# Altium integrated library NSC Switcher.IntLib: 2027 symbols (part 26 of 54)
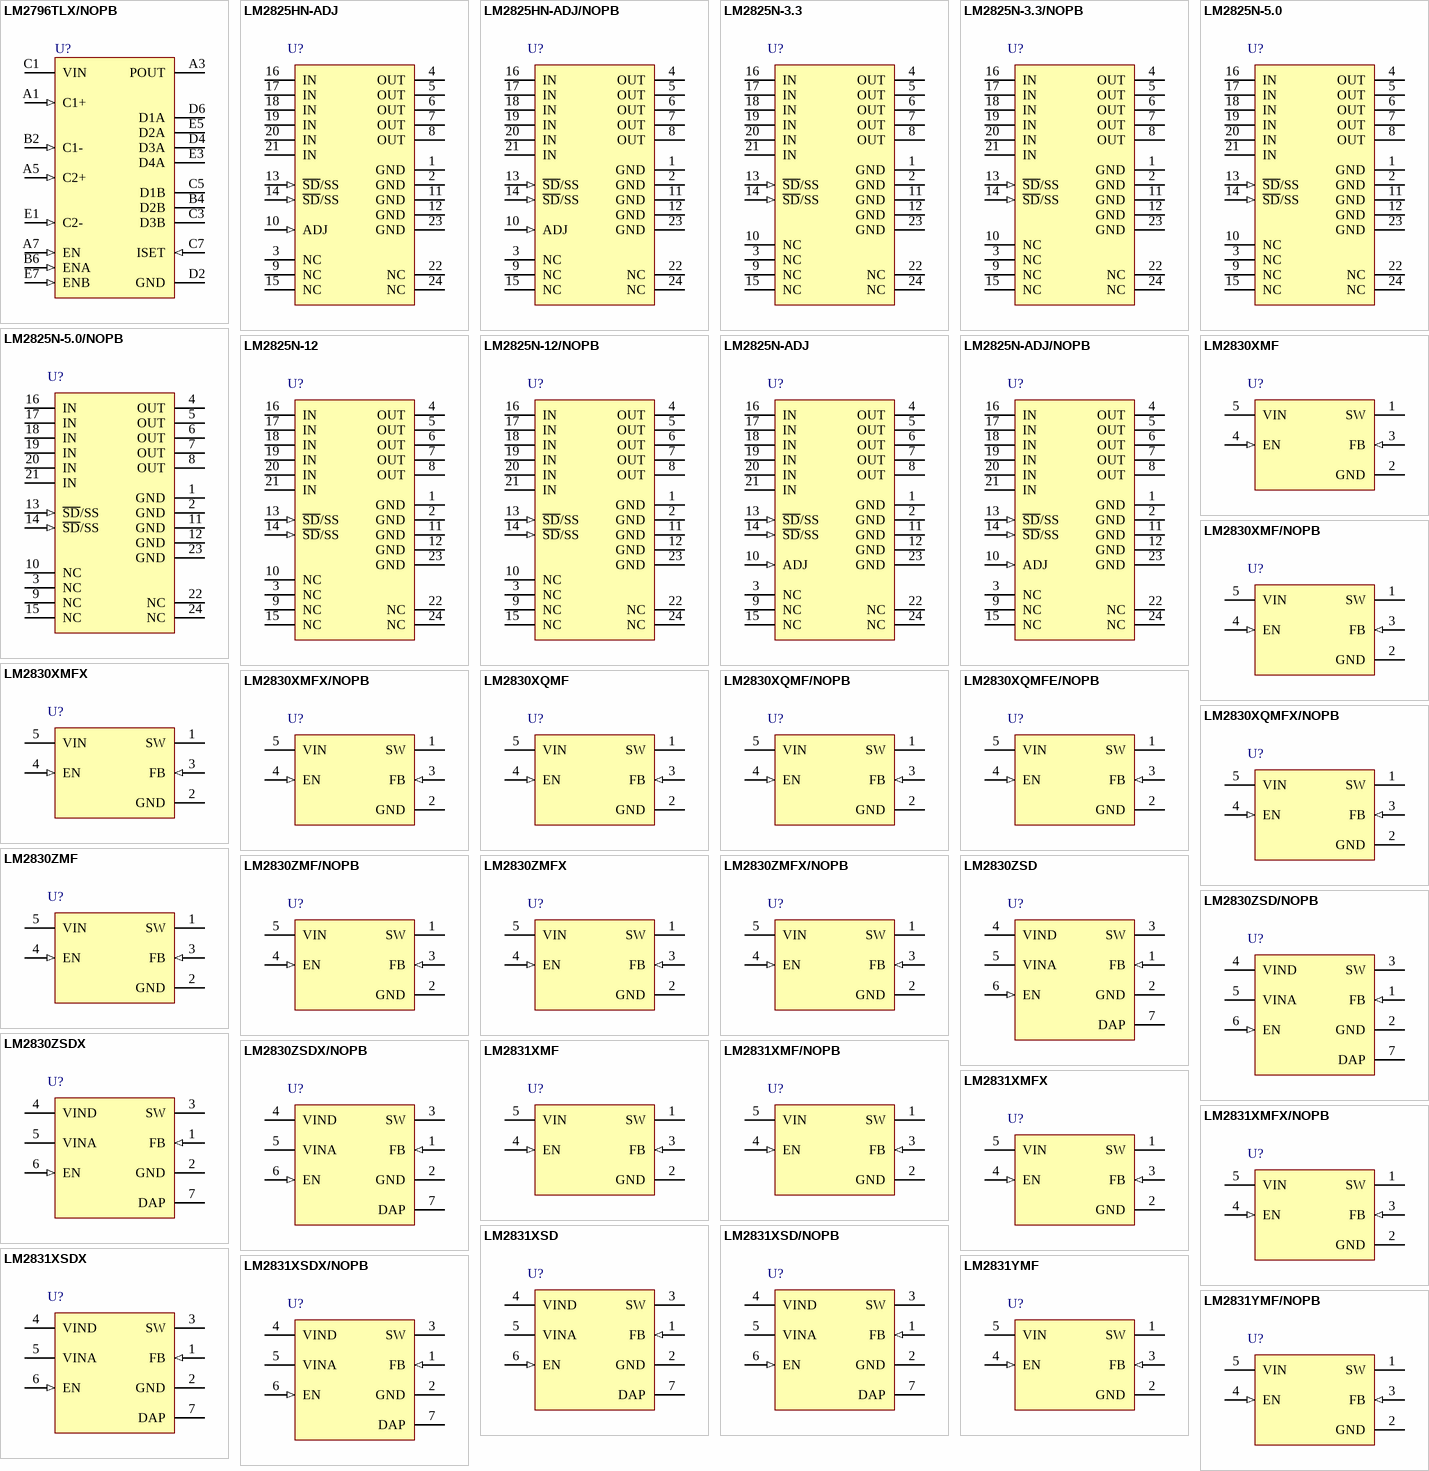
[diagram p88: symbols LM2796TLX/NOPB to LM2831YMF/NOPB]

## LM2830XQMFX/NOPB
designator U?
High Frequency 1.0A Load - Step-Down DC-DC Regulator, 5-pin SOT-23, Pb-Free; PartNumber: LM2830XQMFX/NOPB; Manufacturer: National Semiconductor; PackageTopMarking: SUFB*XTT; PowerWise: N; CompType: Switcher; Published: 1-Mar-2010; DatasheetVersion: May-2008; PackageVersion: revD, Aug-2008; PackageReference: MF05A; Publisher: Altium Limited; PackageDescription: Molded SOT-23, .115 x .063 x .040 in Body, 5 Lead, .0375 in Pitch; Supplier 1: Digi-Key; Supplier Part Number 1: LM2830XQMFX-ND; RoHS: Y; PinCount: 5; ComponentLink1Description: LM2830 Datasheet; ComponentLink1URL: http://www.national.com/ds/LM/LM2830.pdf; ComponentLink2Description: LM2830 Web Page; ComponentLink2URL: http://www.national.com/pf/LM/LM2830.html; ComponentLink3Description: MF05A Package Page; ComponentLink3URL: http://www.national.com/packaging/folders/mf05a.html
footprint MF05A_N (SOT23, 5-Leads, Body 2.9x1.6mm, Pitch 0.95mm, Lead Span 2.8mm, IPC Medium Density)
footprint MF05A_L (SOT23, 5-Leads, Body 2.9x1.6mm, Pitch 0.95mm, Lead Span 2.8mm, IPC High Density)
footprint MF05A_M (SOT23, 5-Leads, Body 2.9x1.6mm, Pitch 0.95mm, Lead Span 2.8mm, IPC Low Density)
pins: 1 SW (power), 2 GND (power), 3 FB (in), 4 EN (in), 5 VIN (power)

## LM2830ZMF
designator U?
High Frequency 1.0A Load - Step-Down DC-DC Regulator, 5-pin SOT-23; PartNumber: LM2830ZMF; Manufacturer: National Semiconductor; PackageTopMarking: SKXB*XTT; PowerWise: N; CompType: Switcher; Published: 4-Dec-2008; DatasheetVersion: May-2008; PackageVersion: revD, Aug-2008; PackageReference: MF05A; Publisher: Altium Limited; PackageDescription: Molded SOT-23, .115 x .063 x .040 in Body, 5 Lead, .0375 in Pitch; Supplier 1: Farnell; Supplier Part Number 1: 1271411; RoHS: N; PinCount: 5; ComponentLink1Description: LM2830 Datasheet; ComponentLink1URL: http://www.national.com/ds/LM/LM2830.pdf; ComponentLink2Description: LM2830 Web Page; ComponentLink2URL: http://www.national.com/pf/LM/LM2830.html; ComponentLink3Description: MF05A Package Page; ComponentLink3URL: http://www.national.com/packaging/folders/mf05a.html
footprint MF05A_N (SOT23, 5-Leads, Body 2.9x1.6mm, Pitch 0.95mm, Lead Span 2.8mm, IPC Medium Density)
footprint MF05A_L (SOT23, 5-Leads, Body 2.9x1.6mm, Pitch 0.95mm, Lead Span 2.8mm, IPC High Density)
footprint MF05A_M (SOT23, 5-Leads, Body 2.9x1.6mm, Pitch 0.95mm, Lead Span 2.8mm, IPC Low Density)
pins: 1 SW (power), 2 GND (power), 3 FB (in), 4 EN (in), 5 VIN (power)

## LM2830ZMF/NOPB
designator U?
High Frequency 1.0A Load - Step-Down DC-DC Regulator, 5-pin SOT-23, Pb-Free; PartNumber: LM2830ZMF/NOPB; Manufacturer: National Semiconductor; PackageTopMarking: SKXB*XTT; PowerWise: N; CompType: Switcher; Published: 1-Mar-2010; DatasheetVersion: May-2008; PackageVersion: revD, Aug-2008; PackageReference: MF05A; Publisher: Altium Limited; PackageDescription: Molded SOT-23, .115 x .063 x .040 in Body, 5 Lead, .0375 in Pitch; Supplier 1: Digi-Key; Supplier Part Number 1: LM2830ZMFTR-ND; Supplier 2: Digi-Key; Supplier Part Number 2: LM2830ZMFCT-ND; Supplier 3: Digi-Key; Supplier Part Number 3: LM2830ZMFDKR-ND; RoHS: Y; PinCount: 5; ComponentLink1Description: LM2830 Datasheet; ComponentLink1URL: http://www.national.com/ds/LM/LM2830.pdf; ComponentLink2Description: LM2830 Web Page; ComponentLink2URL: http://www.national.com/pf/LM/LM2830.html; ComponentLink3Description: MF05A Package Page; ComponentLink3URL: http://www.national.com/packaging/folders/mf05a.html
footprint MF05A_N (SOT23, 5-Leads, Body 2.9x1.6mm, Pitch 0.95mm, Lead Span 2.8mm, IPC Medium Density)
footprint MF05A_L (SOT23, 5-Leads, Body 2.9x1.6mm, Pitch 0.95mm, Lead Span 2.8mm, IPC High Density)
footprint MF05A_M (SOT23, 5-Leads, Body 2.9x1.6mm, Pitch 0.95mm, Lead Span 2.8mm, IPC Low Density)
pins: 1 SW (power), 2 GND (power), 3 FB (in), 4 EN (in), 5 VIN (power)

## LM2830ZMFX
designator U?
High Frequency 1.0A Load - Step-Down DC-DC Regulator, 5-pin SOT-23; PartNumber: LM2830ZMFX; Manufacturer: National Semiconductor; PackageTopMarking: SKXB*XTT; PowerWise: N; CompType: Switcher; Published: 1-Mar-2010; DatasheetVersion: May-2008; PackageVersion: revD, Aug-2008; PackageReference: MF05A; Publisher: Altium Limited; PackageDescription: Molded SOT-23, .115 x .063 x .040 in Body, 5 Lead, .0375 in Pitch; RoHS: N; PinCount: 5; ComponentLink1Description: LM2830 Datasheet; ComponentLink1URL: http://www.national.com/ds/LM/LM2830.pdf; ComponentLink2Description: LM2830 Web Page; ComponentLink2URL: http://www.national.com/pf/LM/LM2830.html; ComponentLink3Description: MF05A Package Page; ComponentLink3URL: http://www.national.com/packaging/folders/mf05a.html
footprint MF05A_N (SOT23, 5-Leads, Body 2.9x1.6mm, Pitch 0.95mm, Lead Span 2.8mm, IPC Medium Density)
footprint MF05A_L (SOT23, 5-Leads, Body 2.9x1.6mm, Pitch 0.95mm, Lead Span 2.8mm, IPC High Density)
footprint MF05A_M (SOT23, 5-Leads, Body 2.9x1.6mm, Pitch 0.95mm, Lead Span 2.8mm, IPC Low Density)
pins: 1 SW (power), 2 GND (power), 3 FB (in), 4 EN (in), 5 VIN (power)

## LM2830ZMFX/NOPB
designator U?
High Frequency 1.0A Load - Step-Down DC-DC Regulator, 5-pin SOT-23, Pb-Free; PartNumber: LM2830ZMFX/NOPB; Manufacturer: National Semiconductor; PackageTopMarking: SKXB*XTT; PowerWise: N; CompType: Switcher; Published: 1-Mar-2010; DatasheetVersion: May-2008; PackageVersion: revD, Aug-2008; PackageReference: MF05A; Publisher: Altium Limited; PackageDescription: Molded SOT-23, .115 x .063 x .040 in Body, 5 Lead, .0375 in Pitch; Supplier 1: Digi-Key; Supplier Part Number 1: LM2830ZMFX-ND; RoHS: Y; PinCount: 5; ComponentLink1Description: LM2830 Datasheet; ComponentLink1URL: http://www.national.com/ds/LM/LM2830.pdf; ComponentLink2Description: LM2830 Web Page; ComponentLink2URL: http://www.national.com/pf/LM/LM2830.html; ComponentLink3Description: MF05A Package Page; ComponentLink3URL: http://www.national.com/packaging/folders/mf05a.html
footprint MF05A_N (SOT23, 5-Leads, Body 2.9x1.6mm, Pitch 0.95mm, Lead Span 2.8mm, IPC Medium Density)
footprint MF05A_L (SOT23, 5-Leads, Body 2.9x1.6mm, Pitch 0.95mm, Lead Span 2.8mm, IPC High Density)
footprint MF05A_M (SOT23, 5-Leads, Body 2.9x1.6mm, Pitch 0.95mm, Lead Span 2.8mm, IPC Low Density)
pins: 1 SW (power), 2 GND (power), 3 FB (in), 4 EN (in), 5 VIN (power)

## LM2830ZSD
designator U?
High Frequency 1.0A Load - Step-Down DC-DC Regulator, 6-pin LLP; PartNumber: LM2830ZSD; Manufacturer: National Semiconductor; PackageTopMarking: ZXYTT*L192B; PowerWise: N; CompType: Switcher; Published: 4-Dec-2008; DatasheetVersion: May-2008; PackageVersion: revA, Jul-2003; PackageReference: SDE06A; Publisher: Altium Limited; PackageDescription: LLP, Plastic, Dual, 3 x 3 x 0.8mm Body, 6 Lead, 0.95mm Pitch, No Pullback; RoHS: N; PinCount: 6; ComponentLink1Description: LM2830 Datasheet; ComponentLink1URL: http://www.national.com/ds/LM/LM2830.pdf; ComponentLink2Description: LM2830 Web Page; ComponentLink2URL: http://www.national.com/pf/LM/LM2830.html; ComponentLink3Description: SDE06A Package Page; ComponentLink3URL: http://www.national.com/packaging/folders/sde06a.html
footprint SDE06A_full (SON, 6-Leads, Body 3x3 mm, Pitch 0.95mm, Full Paste, NSC Recommended)
footprint SDE06A_quad (SON, 6-Leads, Body 3x3 mm, Pitch 0.95mm, Quad Paste, NSC Recommended)
pins: 1 FB (in), 2 GND (power), 3 SW (power), 4 VIND (power), 5 VINA (power), 6 EN (in), 7 DAP

## LM2830ZSD/NOPB
designator U?
High Frequency 1.0A Load - Step-Down DC-DC Regulator, 6-pin LLP, Pb-Free; PartNumber: LM2830ZSD/NOPB; Manufacturer: National Semiconductor; PackageTopMarking: ZXYTT*L192B; PowerWise: N; CompType: Switcher; Published: 1-Mar-2010; DatasheetVersion: May-2008; PackageVersion: revA, Jul-2003; PackageReference: SDE06A; Publisher: Altium Limited; PackageDescription: LLP, Plastic, Dual, 3 x 3 x 0.8mm Body, 6 Lead, 0.95mm Pitch, No Pullback; Supplier 1: Digi-Key; Supplier Part Number 1: LM2830ZSDTR-ND; Supplier 2: Digi-Key; Supplier Part Number 2: LM2830ZSDCT-ND; Supplier 3: Digi-Key; Supplier Part Number 3: LM2830ZSDDKR-ND; RoHS: Y; PinCount: 6; ComponentLink1Description: LM2830 Datasheet; ComponentLink1URL: http://www.national.com/ds/LM/LM2830.pdf; ComponentLink2Description: LM2830 Web Page; ComponentLink2URL: http://www.national.com/pf/LM/LM2830.html; ComponentLink3Description: SDE06A Package Page; ComponentLink3URL: http://www.national.com/packaging/folders/sde06a.html
footprint SDE06A_full (SON, 6-Leads, Body 3x3 mm, Pitch 0.95mm, Full Paste, NSC Recommended)
footprint SDE06A_quad (SON, 6-Leads, Body 3x3 mm, Pitch 0.95mm, Quad Paste, NSC Recommended)
pins: 1 FB (in), 2 GND (power), 3 SW (power), 4 VIND (power), 5 VINA (power), 6 EN (in), 7 DAP

## LM2830ZSDX
designator U?
High Frequency 1.0A Load - Step-Down DC-DC Regulator, 6-pin LLP; PartNumber: LM2830ZSDX; Manufacturer: National Semiconductor; PackageTopMarking: ZXYTT*L192B; PowerWise: N; CompType: Switcher; Published: 1-Mar-2010; DatasheetVersion: May-2008; PackageVersion: revA, Jul-2003; PackageReference: SDE06A; Publisher: Altium Limited; PackageDescription: LLP, Plastic, Dual, 3 x 3 x 0.8mm Body, 6 Lead, 0.95mm Pitch, No Pullback; RoHS: N; PinCount: 6; ComponentLink1Description: LM2830 Datasheet; ComponentLink1URL: http://www.national.com/ds/LM/LM2830.pdf; ComponentLink2Description: LM2830 Web Page; ComponentLink2URL: http://www.national.com/pf/LM/LM2830.html; ComponentLink3Description: SDE06A Package Page; ComponentLink3URL: http://www.national.com/packaging/folders/sde06a.html
footprint SDE06A_full (SON, 6-Leads, Body 3x3 mm, Pitch 0.95mm, Full Paste, NSC Recommended)
footprint SDE06A_quad (SON, 6-Leads, Body 3x3 mm, Pitch 0.95mm, Quad Paste, NSC Recommended)
pins: 1 FB (in), 2 GND (power), 3 SW (power), 4 VIND (power), 5 VINA (power), 6 EN (in), 7 DAP

## LM2830ZSDX/NOPB
designator U?
High Frequency 1.0A Load - Step-Down DC-DC Regulator, 6-pin LLP, Pb-Free; PartNumber: LM2830ZSDX/NOPB; Manufacturer: National Semiconductor; PackageTopMarking: ZXYTT*L192B; PowerWise: N; CompType: Switcher; Published: 1-Mar-2010; DatasheetVersion: May-2008; PackageVersion: revA, Jul-2003; PackageReference: SDE06A; Publisher: Altium Limited; PackageDescription: LLP, Plastic, Dual, 3 x 3 x 0.8mm Body, 6 Lead, 0.95mm Pitch, No Pullback; Supplier 1: Digi-Key; Supplier Part Number 1: LM2830ZSDX-ND; RoHS: Y; PinCount: 6; ComponentLink1Description: LM2830 Datasheet; ComponentLink1URL: http://www.national.com/ds/LM/LM2830.pdf; ComponentLink2Description: LM2830 Web Page; ComponentLink2URL: http://www.national.com/pf/LM/LM2830.html; ComponentLink3Description: SDE06A Package Page; ComponentLink3URL: http://www.national.com/packaging/folders/sde06a.html
footprint SDE06A_full (SON, 6-Leads, Body 3x3 mm, Pitch 0.95mm, Full Paste, NSC Recommended)
footprint SDE06A_quad (SON, 6-Leads, Body 3x3 mm, Pitch 0.95mm, Quad Paste, NSC Recommended)
pins: 1 FB (in), 2 GND (power), 3 SW (power), 4 VIND (power), 5 VINA (power), 6 EN (in), 7 DAP

## LM2831XMF
designator U?
High Frequency 1.5A Load - Step-Down DC-DC Regulator, 5-pin SOT-23; PartNumber: LM2831XMF; Manufacturer: National Semiconductor; PackageTopMarking: SKYB*XTT; PowerWise: N; CompType: Switcher; Published: 4-Dec-2008; DatasheetVersion: Aug-2006; PackageVersion: revD, Aug-2008; PackageReference: MF05A; Publisher: Altium Limited; PackageDescription: Molded SOT-23, .115 x .063 x .040 in Body, 5 Lead, .0375 in Pitch; Supplier 1: Farnell; Supplier Part Number 1: 1271412; RoHS: N; PinCount: 5; ComponentLink1Description: LM2831 Datasheet; ComponentLink1URL: http://www.national.com/ds/LM/LM2831.pdf; ComponentLink2Description: LM2831 Web Page; ComponentLink2URL: http://www.national.com/pf/LM/LM2831.html; ComponentLink3Description: MF05A Package Page; ComponentLink3URL: http://www.national.com/packaging/folders/mf05a.html
footprint MF05A_N (SOT23, 5-Leads, Body 2.9x1.6mm, Pitch 0.95mm, Lead Span 2.8mm, IPC Medium Density)
footprint MF05A_L (SOT23, 5-Leads, Body 2.9x1.6mm, Pitch 0.95mm, Lead Span 2.8mm, IPC High Density)
footprint MF05A_M (SOT23, 5-Leads, Body 2.9x1.6mm, Pitch 0.95mm, Lead Span 2.8mm, IPC Low Density)
pins: 1 SW (power), 2 GND (power), 3 FB (in), 4 EN (in), 5 VIN (power)

## LM2831XMF/NOPB
designator U?
High Frequency 1.5A Load - Step-Down DC-DC Regulator, 5-pin SOT-23, Pb-Free; PartNumber: LM2831XMF/NOPB; Manufacturer: National Semiconductor; PackageTopMarking: SKYB*XTT; PowerWise: N; CompType: Switcher; Published: 1-Mar-2010; DatasheetVersion: Aug-2006; PackageVersion: revD, Aug-2008; PackageReference: MF05A; Publisher: Altium Limited; PackageDescription: Molded SOT-23, .115 x .063 x .040 in Body, 5 Lead, .0375 in Pitch; Supplier 1: Digi-Key; Supplier Part Number 1: LM2831XMFTR-ND; Supplier 2: Digi-Key; Supplier Part Number 2: LM2831XMFCT-ND; Supplier 3: Digi-Key; Supplier Part Number 3: LM2831XMFDKR-ND; Supplier 4: Farnell; Supplier Part Number 4: 1654260; RoHS: Y; PinCount: 5; ComponentLink1Description: LM2831 Datasheet; ComponentLink1URL: http://www.national.com/ds/LM/LM2831.pdf; ComponentLink2Description: LM2831 Web Page; ComponentLink2URL: http://www.national.com/pf/LM/LM2831.html; ComponentLink3Description: MF05A Package Page; ComponentLink3URL: http://www.national.com/packaging/folders/mf05a.html
footprint MF05A_N (SOT23, 5-Leads, Body 2.9x1.6mm, Pitch 0.95mm, Lead Span 2.8mm, IPC Medium Density)
footprint MF05A_L (SOT23, 5-Leads, Body 2.9x1.6mm, Pitch 0.95mm, Lead Span 2.8mm, IPC High Density)
footprint MF05A_M (SOT23, 5-Leads, Body 2.9x1.6mm, Pitch 0.95mm, Lead Span 2.8mm, IPC Low Density)
pins: 1 SW (power), 2 GND (power), 3 FB (in), 4 EN (in), 5 VIN (power)

## LM2831XMFX
designator U?
High Frequency 1.5A Load - Step-Down DC-DC Regulator, 5-pin SOT-23; PartNumber: LM2831XMFX; Manufacturer: National Semiconductor; PackageTopMarking: SKYB*XTT; PowerWise: N; CompType: Switcher; Published: 1-Mar-2010; DatasheetVersion: Aug-2006; PackageVersion: revD, Aug-2008; PackageReference: MF05A; Publisher: Altium Limited; PackageDescription: Molded SOT-23, .115 x .063 x .040 in Body, 5 Lead, .0375 in Pitch; RoHS: N; PinCount: 5; ComponentLink1Description: LM2831 Datasheet; ComponentLink1URL: http://www.national.com/ds/LM/LM2831.pdf; ComponentLink2Description: LM2831 Web Page; ComponentLink2URL: http://www.national.com/pf/LM/LM2831.html; ComponentLink3Description: MF05A Package Page; ComponentLink3URL: http://www.national.com/packaging/folders/mf05a.html
footprint MF05A_N (SOT23, 5-Leads, Body 2.9x1.6mm, Pitch 0.95mm, Lead Span 2.8mm, IPC Medium Density)
footprint MF05A_L (SOT23, 5-Leads, Body 2.9x1.6mm, Pitch 0.95mm, Lead Span 2.8mm, IPC High Density)
footprint MF05A_M (SOT23, 5-Leads, Body 2.9x1.6mm, Pitch 0.95mm, Lead Span 2.8mm, IPC Low Density)
pins: 1 SW (power), 2 GND (power), 3 FB (in), 4 EN (in), 5 VIN (power)

## LM2831XMFX/NOPB
designator U?
High Frequency 1.5A Load - Step-Down DC-DC Regulator, 5-pin SOT-23, Pb-Free; PartNumber: LM2831XMFX/NOPB; Manufacturer: National Semiconductor; PackageTopMarking: SKYB*XTT; PowerWise: N; CompType: Switcher; Published: 1-Mar-2010; DatasheetVersion: Aug-2006; PackageVersion: revD, Aug-2008; PackageReference: MF05A; Publisher: Altium Limited; PackageDescription: Molded SOT-23, .115 x .063 x .040 in Body, 5 Lead, .0375 in Pitch; Supplier 1: Digi-Key; Supplier Part Number 1: LM2831XMFX-ND; RoHS: Y; PinCount: 5; ComponentLink1Description: LM2831 Datasheet; ComponentLink1URL: http://www.national.com/ds/LM/LM2831.pdf; ComponentLink2Description: LM2831 Web Page; ComponentLink2URL: http://www.national.com/pf/LM/LM2831.html; ComponentLink3Description: MF05A Package Page; ComponentLink3URL: http://www.national.com/packaging/folders/mf05a.html
footprint MF05A_N (SOT23, 5-Leads, Body 2.9x1.6mm, Pitch 0.95mm, Lead Span 2.8mm, IPC Medium Density)
footprint MF05A_L (SOT23, 5-Leads, Body 2.9x1.6mm, Pitch 0.95mm, Lead Span 2.8mm, IPC High Density)
footprint MF05A_M (SOT23, 5-Leads, Body 2.9x1.6mm, Pitch 0.95mm, Lead Span 2.8mm, IPC Low Density)
pins: 1 SW (power), 2 GND (power), 3 FB (in), 4 EN (in), 5 VIN (power)

## LM2831XSD
designator U?
High Frequency 1.5A Load - Step-Down DC-DC Regulator, 6-pin LLP; PartNumber: LM2831XSD; Manufacturer: National Semiconductor; PackageTopMarking: ZXYTT*L193B; PowerWise: N; CompType: Switcher; Published: 4-Dec-2008; DatasheetVersion: Aug-2006; PackageVersion: revA, Jul-2003; PackageReference: SDE06A; Publisher: Altium Limited; PackageDescription: LLP, Plastic, Dual, 3 x 3 x 0.8mm Body, 6 Lead, 0.95mm Pitch, No Pullback; RoHS: N; PinCount: 6; ComponentLink1Description: LM2831 Datasheet; ComponentLink1URL: http://www.national.com/ds/LM/LM2831.pdf; ComponentLink2Description: LM2831 Web Page; ComponentLink2URL: http://www.national.com/pf/LM/LM2831.html; ComponentLink3Description: SDE06A Package Page; ComponentLink3URL: http://www.national.com/packaging/folders/sde06a.html
footprint SDE06A_full (SON, 6-Leads, Body 3x3 mm, Pitch 0.95mm, Full Paste, NSC Recommended)
footprint SDE06A_quad (SON, 6-Leads, Body 3x3 mm, Pitch 0.95mm, Quad Paste, NSC Recommended)
pins: 1 FB (in), 2 GND (power), 3 SW (power), 4 VIND (power), 5 VINA (power), 6 EN (in), 7 DAP

## LM2831XSD/NOPB
designator U?
High Frequency 1.5A Load - Step-Down DC-DC Regulator, 6-pin LLP, Pb-Free; PartNumber: LM2831XSD/NOPB; Manufacturer: National Semiconductor; PackageTopMarking: ZXYTT*L193B; PowerWise: N; CompType: Switcher; Published: 1-Mar-2010; DatasheetVersion: Aug-2006; PackageVersion: revA, Jul-2003; PackageReference: SDE06A; Publisher: Altium Limited; PackageDescription: LLP, Plastic, Dual, 3 x 3 x 0.8mm Body, 6 Lead, 0.95mm Pitch, No Pullback; Supplier 1: Digi-Key; Supplier Part Number 1: LM2831XSDTR-ND; Supplier 2: Digi-Key; Supplier Part Number 2: LM2831XSDCT-ND; Supplier 3: Digi-Key; Supplier Part Number 3: LM2831XSDDKR-ND; Supplier 4: Farnell; Supplier Part Number 4: 1694468; RoHS: Y; PinCount: 6; ComponentLink1Description: LM2831 Datasheet; ComponentLink1URL: http://www.national.com/ds/LM/LM2831.pdf; ComponentLink2Description: LM2831 Web Page; ComponentLink2URL: http://www.national.com/pf/LM/LM2831.html; ComponentLink3Description: SDE06A Package Page; ComponentLink3URL: http://www.national.com/packaging/folders/sde06a.html
footprint SDE06A_full (SON, 6-Leads, Body 3x3 mm, Pitch 0.95mm, Full Paste, NSC Recommended)
footprint SDE06A_quad (SON, 6-Leads, Body 3x3 mm, Pitch 0.95mm, Quad Paste, NSC Recommended)
pins: 1 FB (in), 2 GND (power), 3 SW (power), 4 VIND (power), 5 VINA (power), 6 EN (in), 7 DAP

## LM2831XSDX
designator U?
High Frequency 1.5A Load - Step-Down DC-DC Regulator, 6-pin LLP; PartNumber: LM2831XSDX; Manufacturer: National Semiconductor; PackageTopMarking: ZXYTT*L193B; PowerWise: N; CompType: Switcher; Published: 1-Mar-2010; DatasheetVersion: Aug-2006; PackageVersion: revA, Jul-2003; PackageReference: SDE06A; Publisher: Altium Limited; PackageDescription: LLP, Plastic, Dual, 3 x 3 x 0.8mm Body, 6 Lead, 0.95mm Pitch, No Pullback; RoHS: N; PinCount: 6; ComponentLink1Description: LM2831 Datasheet; ComponentLink1URL: http://www.national.com/ds/LM/LM2831.pdf; ComponentLink2Description: LM2831 Web Page; ComponentLink2URL: http://www.national.com/pf/LM/LM2831.html; ComponentLink3Description: SDE06A Package Page; ComponentLink3URL: http://www.national.com/packaging/folders/sde06a.html
footprint SDE06A_full (SON, 6-Leads, Body 3x3 mm, Pitch 0.95mm, Full Paste, NSC Recommended)
footprint SDE06A_quad (SON, 6-Leads, Body 3x3 mm, Pitch 0.95mm, Quad Paste, NSC Recommended)
pins: 1 FB (in), 2 GND (power), 3 SW (power), 4 VIND (power), 5 VINA (power), 6 EN (in), 7 DAP

## LM2831XSDX/NOPB
designator U?
High Frequency 1.5A Load - Step-Down DC-DC Regulator, 6-pin LLP, Pb-Free; PartNumber: LM2831XSDX/NOPB; Manufacturer: National Semiconductor; PackageTopMarking: ZXYTT*L193B; PowerWise: N; CompType: Switcher; Published: 1-Mar-2010; DatasheetVersion: Aug-2006; PackageVersion: revA, Jul-2003; PackageReference: SDE06A; Publisher: Altium Limited; PackageDescription: LLP, Plastic, Dual, 3 x 3 x 0.8mm Body, 6 Lead, 0.95mm Pitch, No Pullback; Supplier 1: Digi-Key; Supplier Part Number 1: LM2831XSDX-ND; RoHS: Y; PinCount: 6; ComponentLink1Description: LM2831 Datasheet; ComponentLink1URL: http://www.national.com/ds/LM/LM2831.pdf; ComponentLink2Description: LM2831 Web Page; ComponentLink2URL: http://www.national.com/pf/LM/LM2831.html; ComponentLink3Description: SDE06A Package Page; ComponentLink3URL: http://www.national.com/packaging/folders/sde06a.html
footprint SDE06A_full (SON, 6-Leads, Body 3x3 mm, Pitch 0.95mm, Full Paste, NSC Recommended)
footprint SDE06A_quad (SON, 6-Leads, Body 3x3 mm, Pitch 0.95mm, Quad Paste, NSC Recommended)
pins: 1 FB (in), 2 GND (power), 3 SW (power), 4 VIND (power), 5 VINA (power), 6 EN (in), 7 DAP

## LM2831YMF
designator U?
High Frequency 1.5A Load - Step-Down DC-DC Regulator, 5-pin SOT-23; PartNumber: LM2831YMF; Manufacturer: National Semiconductor; PackageTopMarking: SKZB*XTT; PowerWise: N; CompType: Switcher; Published: 4-Dec-2008; DatasheetVersion: Aug-2006; PackageVersion: revD, Aug-2008; PackageReference: MF05A; Publisher: Altium Limited; PackageDescription: Molded SOT-23, .115 x .063 x .040 in Body, 5 Lead, .0375 in Pitch; Supplier 1: Farnell; Supplier Part Number 1: 1271409; RoHS: N; PinCount: 5; ComponentLink1Description: LM2831 Datasheet; ComponentLink1URL: http://www.national.com/ds/LM/LM2831.pdf; ComponentLink2Description: LM2831 Web Page; ComponentLink2URL: http://www.national.com/pf/LM/LM2831.html; ComponentLink3Description: MF05A Package Page; ComponentLink3URL: http://www.national.com/packaging/folders/mf05a.html
footprint MF05A_N (SOT23, 5-Leads, Body 2.9x1.6mm, Pitch 0.95mm, Lead Span 2.8mm, IPC Medium Density)
footprint MF05A_L (SOT23, 5-Leads, Body 2.9x1.6mm, Pitch 0.95mm, Lead Span 2.8mm, IPC High Density)
footprint MF05A_M (SOT23, 5-Leads, Body 2.9x1.6mm, Pitch 0.95mm, Lead Span 2.8mm, IPC Low Density)
pins: 1 SW (power), 2 GND (power), 3 FB (in), 4 EN (in), 5 VIN (power)

## LM2831YMF/NOPB
designator U?
High Frequency 1.5A Load - Step-Down DC-DC Regulator, 5-pin SOT-23, Pb-Free; PartNumber: LM2831YMF/NOPB; Manufacturer: National Semiconductor; PackageTopMarking: SKZB*XTT; PowerWise: N; CompType: Switcher; Published: 1-Mar-2010; DatasheetVersion: Aug-2006; PackageVersion: revD, Aug-2008; PackageReference: MF05A; Publisher: Altium Limited; PackageDescription: Molded SOT-23, .115 x .063 x .040 in Body, 5 Lead, .0375 in Pitch; Supplier 1: Digi-Key; Supplier Part Number 1: LM2831YMFTR-ND; Supplier 2: Digi-Key; Supplier Part Number 2: LM2831YMFCT-ND; Supplier 3: Digi-Key; Supplier Part Number 3: LM2831YMFDKR-ND; Supplier 4: Farnell; Supplier Part Number 4: 1286714; RoHS: Y; PinCount: 5; ComponentLink1Description: LM2831 Datasheet; ComponentLink1URL: http://www.national.com/ds/LM/LM2831.pdf; ComponentLink2Description: LM2831 Web Page; ComponentLink2URL: http://www.national.com/pf/LM/LM2831.html; ComponentLink3Description: MF05A Package Page; ComponentLink3URL: http://www.national.com/packaging/folders/mf05a.html
footprint MF05A_N (SOT23, 5-Leads, Body 2.9x1.6mm, Pitch 0.95mm, Lead Span 2.8mm, IPC Medium Density)
footprint MF05A_L (SOT23, 5-Leads, Body 2.9x1.6mm, Pitch 0.95mm, Lead Span 2.8mm, IPC High Density)
footprint MF05A_M (SOT23, 5-Leads, Body 2.9x1.6mm, Pitch 0.95mm, Lead Span 2.8mm, IPC Low Density)
pins: 1 SW (power), 2 GND (power), 3 FB (in), 4 EN (in), 5 VIN (power)

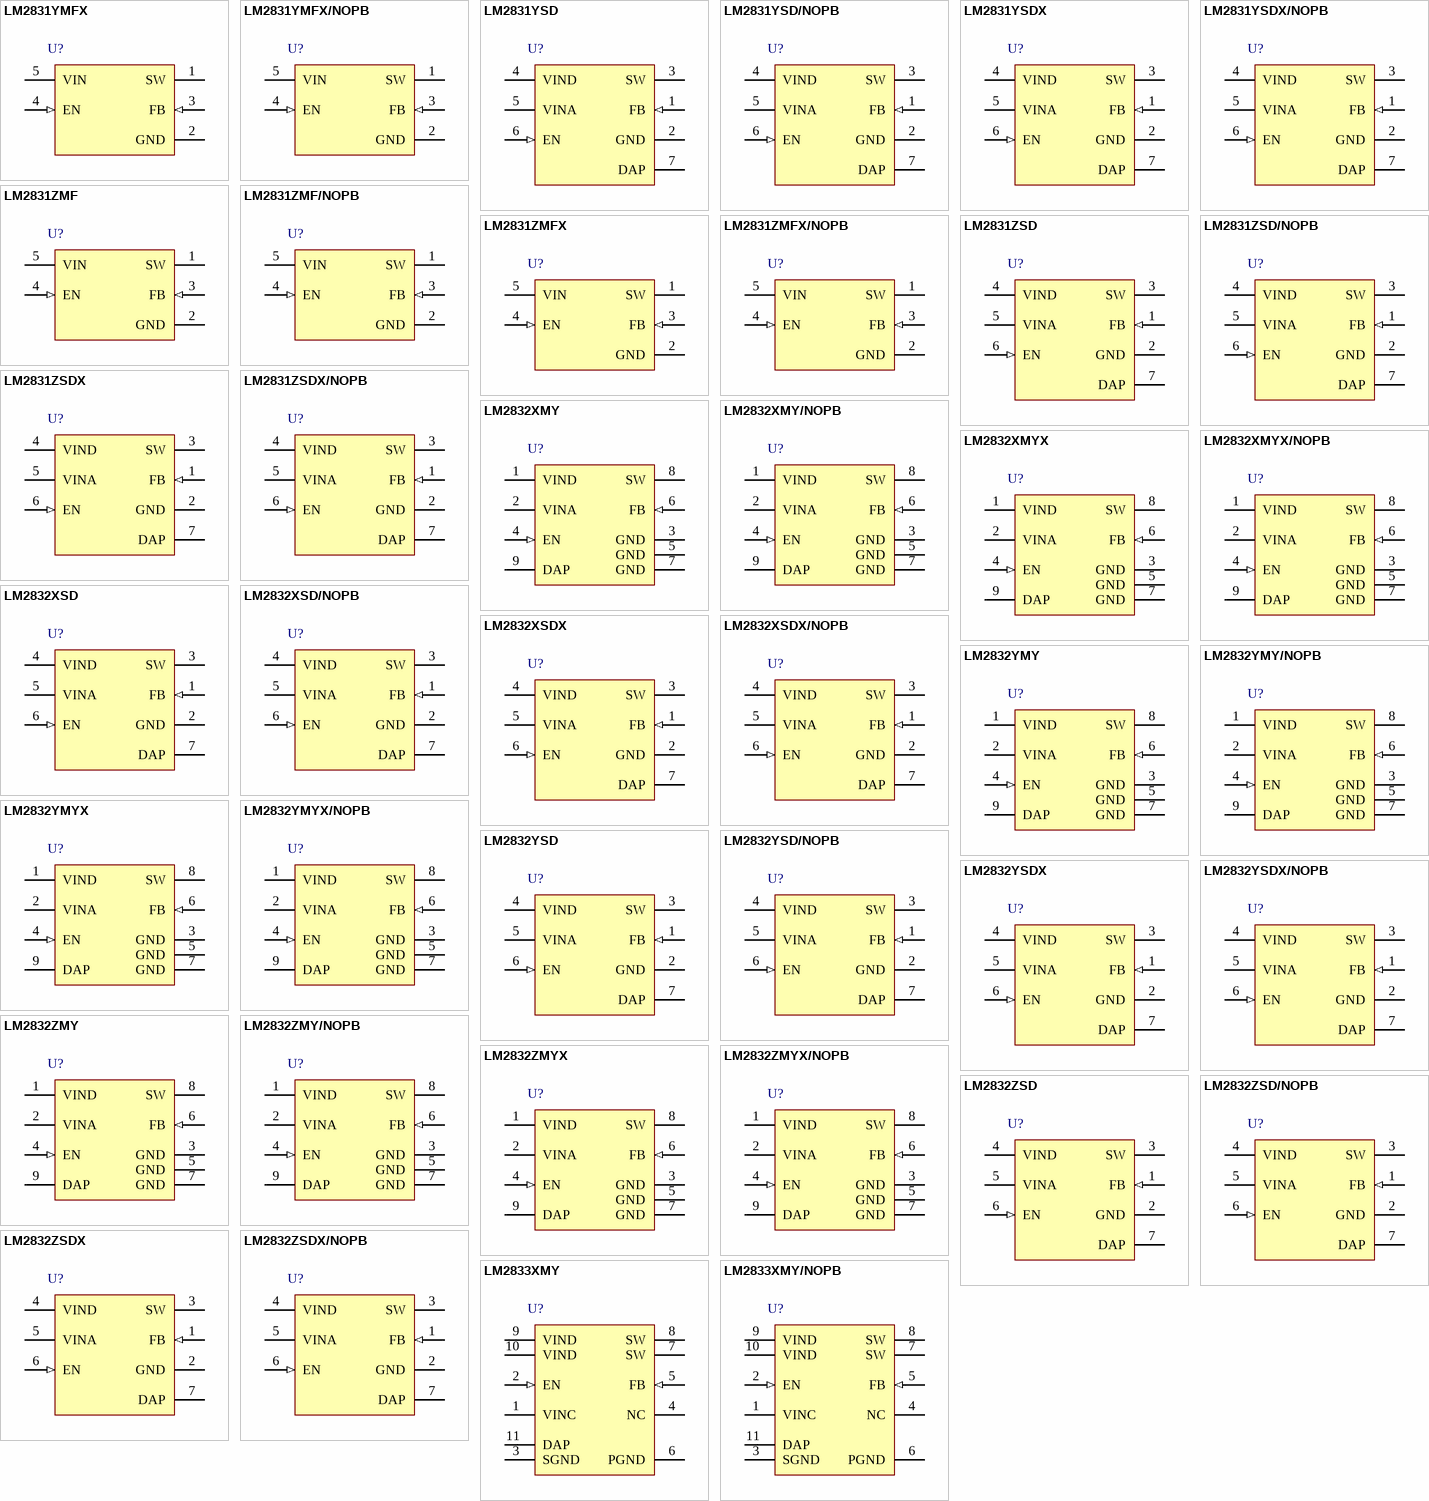
[diagram p28: symbols LM2831YMFX to LM2833XMY/NOPB]

## LM2831YMFX
designator U?
High Frequency 1.5A Load - Step-Down DC-DC Regulator, 5-pin SOT-23; PartNumber: LM2831YMFX; Manufacturer: National Semiconductor; PackageTopMarking: SKZB*XTT; PowerWise: N; CompType: Switcher; Published: 1-Mar-2010; DatasheetVersion: Aug-2006; PackageVersion: revD, Aug-2008; PackageReference: MF05A; Publisher: Altium Limited; PackageDescription: Molded SOT-23, .115 x .063 x .040 in Body, 5 Lead, .0375 in Pitch; RoHS: N; PinCount: 5; ComponentLink1Description: LM2831 Datasheet; ComponentLink1URL: http://www.national.com/ds/LM/LM2831.pdf; ComponentLink2Description: LM2831 Web Page; ComponentLink2URL: http://www.national.com/pf/LM/LM2831.html; ComponentLink3Description: MF05A Package Page; ComponentLink3URL: http://www.national.com/packaging/folders/mf05a.html
footprint MF05A_N (SOT23, 5-Leads, Body 2.9x1.6mm, Pitch 0.95mm, Lead Span 2.8mm, IPC Medium Density)
footprint MF05A_L (SOT23, 5-Leads, Body 2.9x1.6mm, Pitch 0.95mm, Lead Span 2.8mm, IPC High Density)
footprint MF05A_M (SOT23, 5-Leads, Body 2.9x1.6mm, Pitch 0.95mm, Lead Span 2.8mm, IPC Low Density)
pins: 1 SW (power), 2 GND (power), 3 FB (in), 4 EN (in), 5 VIN (power)

## LM2831YMFX/NOPB
designator U?
High Frequency 1.5A Load - Step-Down DC-DC Regulator, 5-pin SOT-23, Pb-Free; PartNumber: LM2831YMFX/NOPB; Manufacturer: National Semiconductor; PackageTopMarking: SKZB*XTT; PowerWise: N; CompType: Switcher; Published: 1-Mar-2010; DatasheetVersion: Aug-2006; PackageVersion: revD, Aug-2008; PackageReference: MF05A; Publisher: Altium Limited; PackageDescription: Molded SOT-23, .115 x .063 x .040 in Body, 5 Lead, .0375 in Pitch; Supplier 1: Digi-Key; Supplier Part Number 1: LM2831YMFX-ND; RoHS: Y; PinCount: 5; ComponentLink1Description: LM2831 Datasheet; ComponentLink1URL: http://www.national.com/ds/LM/LM2831.pdf; ComponentLink2Description: LM2831 Web Page; ComponentLink2URL: http://www.national.com/pf/LM/LM2831.html; ComponentLink3Description: MF05A Package Page; ComponentLink3URL: http://www.national.com/packaging/folders/mf05a.html
footprint MF05A_N (SOT23, 5-Leads, Body 2.9x1.6mm, Pitch 0.95mm, Lead Span 2.8mm, IPC Medium Density)
footprint MF05A_L (SOT23, 5-Leads, Body 2.9x1.6mm, Pitch 0.95mm, Lead Span 2.8mm, IPC High Density)
footprint MF05A_M (SOT23, 5-Leads, Body 2.9x1.6mm, Pitch 0.95mm, Lead Span 2.8mm, IPC Low Density)
pins: 1 SW (power), 2 GND (power), 3 FB (in), 4 EN (in), 5 VIN (power)

## LM2831YSD
designator U?
High Frequency 1.5A Load - Step-Down DC-DC Regulator, 6-pin LLP; PartNumber: LM2831YSD; Manufacturer: National Semiconductor; PackageTopMarking: ZXYTT*L194B; PowerWise: N; CompType: Switcher; Published: 4-Dec-2008; DatasheetVersion: Aug-2006; PackageVersion: revA, Jul-2003; PackageReference: SDE06A; Publisher: Altium Limited; PackageDescription: LLP, Plastic, Dual, 3 x 3 x 0.8mm Body, 6 Lead, 0.95mm Pitch, No Pullback; RoHS: N; PinCount: 6; ComponentLink1Description: LM2831 Datasheet; ComponentLink1URL: http://www.national.com/ds/LM/LM2831.pdf; ComponentLink2Description: LM2831 Web Page; ComponentLink2URL: http://www.national.com/pf/LM/LM2831.html; ComponentLink3Description: SDE06A Package Page; ComponentLink3URL: http://www.national.com/packaging/folders/sde06a.html
footprint SDE06A_full (SON, 6-Leads, Body 3x3 mm, Pitch 0.95mm, Full Paste, NSC Recommended)
footprint SDE06A_quad (SON, 6-Leads, Body 3x3 mm, Pitch 0.95mm, Quad Paste, NSC Recommended)
pins: 1 FB (in), 2 GND (power), 3 SW (power), 4 VIND (power), 5 VINA (power), 6 EN (in), 7 DAP

## LM2831YSD/NOPB
designator U?
High Frequency 1.5A Load - Step-Down DC-DC Regulator, 6-pin LLP, Pb-Free; PartNumber: LM2831YSD/NOPB; Manufacturer: National Semiconductor; PackageTopMarking: ZXYTT*L194B; PowerWise: N; CompType: Switcher; Published: 1-Mar-2010; DatasheetVersion: Aug-2006; PackageVersion: revA, Jul-2003; PackageReference: SDE06A; Publisher: Altium Limited; PackageDescription: LLP, Plastic, Dual, 3 x 3 x 0.8mm Body, 6 Lead, 0.95mm Pitch, No Pullback; Supplier 1: Digi-Key; Supplier Part Number 1: LM2831YSDTR-ND; Supplier 2: Digi-Key; Supplier Part Number 2: LM2831YSDCT-ND; Supplier 3: Digi-Key; Supplier Part Number 3: LM2831YSDDKR-ND; RoHS: Y; PinCount: 6; ComponentLink1Description: LM2831 Datasheet; ComponentLink1URL: http://www.national.com/ds/LM/LM2831.pdf; ComponentLink2Description: LM2831 Web Page; ComponentLink2URL: http://www.national.com/pf/LM/LM2831.html; ComponentLink3Description: SDE06A Package Page; ComponentLink3URL: http://www.national.com/packaging/folders/sde06a.html
footprint SDE06A_full (SON, 6-Leads, Body 3x3 mm, Pitch 0.95mm, Full Paste, NSC Recommended)
footprint SDE06A_quad (SON, 6-Leads, Body 3x3 mm, Pitch 0.95mm, Quad Paste, NSC Recommended)
pins: 1 FB (in), 2 GND (power), 3 SW (power), 4 VIND (power), 5 VINA (power), 6 EN (in), 7 DAP

## LM2831YSDX
designator U?
High Frequency 1.5A Load - Step-Down DC-DC Regulator, 6-pin LLP; PartNumber: LM2831YSDX; Manufacturer: National Semiconductor; PackageTopMarking: ZXYTT*L194B; PowerWise: N; CompType: Switcher; Published: 1-Mar-2010; DatasheetVersion: Aug-2006; PackageVersion: revA, Jul-2003; PackageReference: SDE06A; Publisher: Altium Limited; PackageDescription: LLP, Plastic, Dual, 3 x 3 x 0.8mm Body, 6 Lead, 0.95mm Pitch, No Pullback; RoHS: N; PinCount: 6; ComponentLink1Description: LM2831 Datasheet; ComponentLink1URL: http://www.national.com/ds/LM/LM2831.pdf; ComponentLink2Description: LM2831 Web Page; ComponentLink2URL: http://www.national.com/pf/LM/LM2831.html; ComponentLink3Description: SDE06A Package Page; ComponentLink3URL: http://www.national.com/packaging/folders/sde06a.html
footprint SDE06A_full (SON, 6-Leads, Body 3x3 mm, Pitch 0.95mm, Full Paste, NSC Recommended)
footprint SDE06A_quad (SON, 6-Leads, Body 3x3 mm, Pitch 0.95mm, Quad Paste, NSC Recommended)
pins: 1 FB (in), 2 GND (power), 3 SW (power), 4 VIND (power), 5 VINA (power), 6 EN (in), 7 DAP

## LM2831YSDX/NOPB
designator U?
High Frequency 1.5A Load - Step-Down DC-DC Regulator, 6-pin LLP, Pb-Free; PartNumber: LM2831YSDX/NOPB; Manufacturer: National Semiconductor; PackageTopMarking: ZXYTT*L194B; PowerWise: N; CompType: Switcher; Published: 1-Mar-2010; DatasheetVersion: Aug-2006; PackageVersion: revA, Jul-2003; PackageReference: SDE06A; Publisher: Altium Limited; PackageDescription: LLP, Plastic, Dual, 3 x 3 x 0.8mm Body, 6 Lead, 0.95mm Pitch, No Pullback; Supplier 1: Digi-Key; Supplier Part Number 1: LM2831YSDX-ND; RoHS: Y; PinCount: 6; ComponentLink1Description: LM2831 Datasheet; ComponentLink1URL: http://www.national.com/ds/LM/LM2831.pdf; ComponentLink2Description: LM2831 Web Page; ComponentLink2URL: http://www.national.com/pf/LM/LM2831.html; ComponentLink3Description: SDE06A Package Page; ComponentLink3URL: http://www.national.com/packaging/folders/sde06a.html
footprint SDE06A_full (SON, 6-Leads, Body 3x3 mm, Pitch 0.95mm, Full Paste, NSC Recommended)
footprint SDE06A_quad (SON, 6-Leads, Body 3x3 mm, Pitch 0.95mm, Quad Paste, NSC Recommended)
pins: 1 FB (in), 2 GND (power), 3 SW (power), 4 VIND (power), 5 VINA (power), 6 EN (in), 7 DAP

## LM2831ZMF
designator U?
High Frequency 1.5A Load - Step-Down DC-DC Regulator, 5-pin SOT-23; PartNumber: LM2831ZMF; Manufacturer: National Semiconductor; PackageTopMarking: SLAB*XTT; PowerWise: N; CompType: Switcher; Published: 4-Dec-2008; DatasheetVersion: Aug-2006; PackageVersion: revD, Aug-2008; PackageReference: MF05A; Publisher: Altium Limited; PackageDescription: Molded SOT-23, .115 x .063 x .040 in Body, 5 Lead, .0375 in Pitch; Supplier 1: Farnell; Supplier Part Number 1: 1271413; RoHS: N; PinCount: 5; ComponentLink1Description: LM2831 Datasheet; ComponentLink1URL: http://www.national.com/ds/LM/LM2831.pdf; ComponentLink2Description: LM2831 Web Page; ComponentLink2URL: http://www.national.com/pf/LM/LM2831.html; ComponentLink3Description: MF05A Package Page; ComponentLink3URL: http://www.national.com/packaging/folders/mf05a.html
footprint MF05A_N (SOT23, 5-Leads, Body 2.9x1.6mm, Pitch 0.95mm, Lead Span 2.8mm, IPC Medium Density)
footprint MF05A_L (SOT23, 5-Leads, Body 2.9x1.6mm, Pitch 0.95mm, Lead Span 2.8mm, IPC High Density)
footprint MF05A_M (SOT23, 5-Leads, Body 2.9x1.6mm, Pitch 0.95mm, Lead Span 2.8mm, IPC Low Density)
pins: 1 SW (power), 2 GND (power), 3 FB (in), 4 EN (in), 5 VIN (power)

## LM2831ZMF/NOPB
designator U?
High Frequency 1.5A Load - Step-Down DC-DC Regulator, 5-pin SOT-23, Pb-Free; PartNumber: LM2831ZMF/NOPB; Manufacturer: National Semiconductor; PackageTopMarking: SLAB*XTT; PowerWise: N; CompType: Switcher; Published: 1-Mar-2010; DatasheetVersion: Aug-2006; PackageVersion: revD, Aug-2008; PackageReference: MF05A; Publisher: Altium Limited; PackageDescription: Molded SOT-23, .115 x .063 x .040 in Body, 5 Lead, .0375 in Pitch; Supplier 1: Digi-Key; Supplier Part Number 1: LM2831ZMFTR-ND; Supplier 2: Digi-Key; Supplier Part Number 2: LM2831ZMFCT-ND; Supplier 3: Digi-Key; Supplier Part Number 3: LM2831ZMFDKR-ND; Supplier 4: Farnell; Supplier Part Number 4: 1693893; RoHS: Y; PinCount: 5; ComponentLink1Description: LM2831 Datasheet; ComponentLink1URL: http://www.national.com/ds/LM/LM2831.pdf; ComponentLink2Description: LM2831 Web Page; ComponentLink2URL: http://www.national.com/pf/LM/LM2831.html; ComponentLink3Description: MF05A Package Page; ComponentLink3URL: http://www.national.com/packaging/folders/mf05a.html
footprint MF05A_N (SOT23, 5-Leads, Body 2.9x1.6mm, Pitch 0.95mm, Lead Span 2.8mm, IPC Medium Density)
footprint MF05A_L (SOT23, 5-Leads, Body 2.9x1.6mm, Pitch 0.95mm, Lead Span 2.8mm, IPC High Density)
footprint MF05A_M (SOT23, 5-Leads, Body 2.9x1.6mm, Pitch 0.95mm, Lead Span 2.8mm, IPC Low Density)
pins: 1 SW (power), 2 GND (power), 3 FB (in), 4 EN (in), 5 VIN (power)

## LM2831ZMFX
designator U?
High Frequency 1.5A Load - Step-Down DC-DC Regulator, 5-pin SOT-23; PartNumber: LM2831ZMFX; Manufacturer: National Semiconductor; PackageTopMarking: SLAB*XTT; PowerWise: N; CompType: Switcher; Published: 1-Mar-2010; DatasheetVersion: Aug-2006; PackageVersion: revD, Aug-2008; PackageReference: MF05A; Publisher: Altium Limited; PackageDescription: Molded SOT-23, .115 x .063 x .040 in Body, 5 Lead, .0375 in Pitch; RoHS: N; PinCount: 5; ComponentLink1Description: LM2831 Datasheet; ComponentLink1URL: http://www.national.com/ds/LM/LM2831.pdf; ComponentLink2Description: LM2831 Web Page; ComponentLink2URL: http://www.national.com/pf/LM/LM2831.html; ComponentLink3Description: MF05A Package Page; ComponentLink3URL: http://www.national.com/packaging/folders/mf05a.html
footprint MF05A_N (SOT23, 5-Leads, Body 2.9x1.6mm, Pitch 0.95mm, Lead Span 2.8mm, IPC Medium Density)
footprint MF05A_L (SOT23, 5-Leads, Body 2.9x1.6mm, Pitch 0.95mm, Lead Span 2.8mm, IPC High Density)
footprint MF05A_M (SOT23, 5-Leads, Body 2.9x1.6mm, Pitch 0.95mm, Lead Span 2.8mm, IPC Low Density)
pins: 1 SW (power), 2 GND (power), 3 FB (in), 4 EN (in), 5 VIN (power)

## LM2831ZMFX/NOPB
designator U?
High Frequency 1.5A Load - Step-Down DC-DC Regulator, 5-pin SOT-23, Pb-Free; PartNumber: LM2831ZMFX/NOPB; Manufacturer: National Semiconductor; PackageTopMarking: SLAB*XTT; PowerWise: N; CompType: Switcher; Published: 1-Mar-2010; DatasheetVersion: Aug-2006; PackageVersion: revD, Aug-2008; PackageReference: MF05A; Publisher: Altium Limited; PackageDescription: Molded SOT-23, .115 x .063 x .040 in Body, 5 Lead, .0375 in Pitch; Supplier 1: Digi-Key; Supplier Part Number 1: LM2831ZMFX-ND; RoHS: Y; PinCount: 5; ComponentLink1Description: LM2831 Datasheet; ComponentLink1URL: http://www.national.com/ds/LM/LM2831.pdf; ComponentLink2Description: LM2831 Web Page; ComponentLink2URL: http://www.national.com/pf/LM/LM2831.html; ComponentLink3Description: MF05A Package Page; ComponentLink3URL: http://www.national.com/packaging/folders/mf05a.html
footprint MF05A_N (SOT23, 5-Leads, Body 2.9x1.6mm, Pitch 0.95mm, Lead Span 2.8mm, IPC Medium Density)
footprint MF05A_L (SOT23, 5-Leads, Body 2.9x1.6mm, Pitch 0.95mm, Lead Span 2.8mm, IPC High Density)
footprint MF05A_M (SOT23, 5-Leads, Body 2.9x1.6mm, Pitch 0.95mm, Lead Span 2.8mm, IPC Low Density)
pins: 1 SW (power), 2 GND (power), 3 FB (in), 4 EN (in), 5 VIN (power)

## LM2831ZSD
designator U?
High Frequency 1.5A Load - Step-Down DC-DC Regulator, 6-pin LLP; PartNumber: LM2831ZSD; Manufacturer: National Semiconductor; PackageTopMarking: ZXYTT*L195B; PowerWise: N; CompType: Switcher; Published: 4-Dec-2008; DatasheetVersion: Aug-2006; PackageVersion: revA, Jul-2003; PackageReference: SDE06A; Publisher: Altium Limited; PackageDescription: LLP, Plastic, Dual, 3 x 3 x 0.8mm Body, 6 Lead, 0.95mm Pitch, No Pullback; RoHS: N; PinCount: 6; ComponentLink1Description: LM2831 Datasheet; ComponentLink1URL: http://www.national.com/ds/LM/LM2831.pdf; ComponentLink2Description: LM2831 Web Page; ComponentLink2URL: http://www.national.com/pf/LM/LM2831.html; ComponentLink3Description: SDE06A Package Page; ComponentLink3URL: http://www.national.com/packaging/folders/sde06a.html
footprint SDE06A_full (SON, 6-Leads, Body 3x3 mm, Pitch 0.95mm, Full Paste, NSC Recommended)
footprint SDE06A_quad (SON, 6-Leads, Body 3x3 mm, Pitch 0.95mm, Quad Paste, NSC Recommended)
pins: 1 FB (in), 2 GND (power), 3 SW (power), 4 VIND (power), 5 VINA (power), 6 EN (in), 7 DAP

## LM2831ZSD/NOPB
designator U?
High Frequency 1.5A Load - Step-Down DC-DC Regulator, 6-pin LLP, Pb-Free; PartNumber: LM2831ZSD/NOPB; Manufacturer: National Semiconductor; PackageTopMarking: ZXYTT*L195B; PowerWise: N; CompType: Switcher; Published: 1-Mar-2010; DatasheetVersion: Aug-2006; PackageVersion: revA, Jul-2003; PackageReference: SDE06A; Publisher: Altium Limited; PackageDescription: LLP, Plastic, Dual, 3 x 3 x 0.8mm Body, 6 Lead, 0.95mm Pitch, No Pullback; Supplier 1: Digi-Key; Supplier Part Number 1: LM2831ZSDTR-ND; Supplier 2: Digi-Key; Supplier Part Number 2: LM2831ZSDCT-ND; Supplier 3: Digi-Key; Supplier Part Number 3: LM2831ZSDDKR-ND; RoHS: Y; PinCount: 6; ComponentLink1Description: LM2831 Datasheet; ComponentLink1URL: http://www.national.com/ds/LM/LM2831.pdf; ComponentLink2Description: LM2831 Web Page; ComponentLink2URL: http://www.national.com/pf/LM/LM2831.html; ComponentLink3Description: SDE06A Package Page; ComponentLink3URL: http://www.national.com/packaging/folders/sde06a.html
footprint SDE06A_full (SON, 6-Leads, Body 3x3 mm, Pitch 0.95mm, Full Paste, NSC Recommended)
footprint SDE06A_quad (SON, 6-Leads, Body 3x3 mm, Pitch 0.95mm, Quad Paste, NSC Recommended)
pins: 1 FB (in), 2 GND (power), 3 SW (power), 4 VIND (power), 5 VINA (power), 6 EN (in), 7 DAP

## LM2831ZSDX
designator U?
High Frequency 1.5A Load - Step-Down DC-DC Regulator, 6-pin LLP; PartNumber: LM2831ZSDX; Manufacturer: National Semiconductor; PackageTopMarking: ZXYTT*L195B; PowerWise: N; CompType: Switcher; Published: 1-Mar-2010; DatasheetVersion: Aug-2006; PackageVersion: revA, Jul-2003; PackageReference: SDE06A; Publisher: Altium Limited; PackageDescription: LLP, Plastic, Dual, 3 x 3 x 0.8mm Body, 6 Lead, 0.95mm Pitch, No Pullback; RoHS: N; PinCount: 6; ComponentLink1Description: LM2831 Datasheet; ComponentLink1URL: http://www.national.com/ds/LM/LM2831.pdf; ComponentLink2Description: LM2831 Web Page; ComponentLink2URL: http://www.national.com/pf/LM/LM2831.html; ComponentLink3Description: SDE06A Package Page; ComponentLink3URL: http://www.national.com/packaging/folders/sde06a.html
footprint SDE06A_full (SON, 6-Leads, Body 3x3 mm, Pitch 0.95mm, Full Paste, NSC Recommended)
footprint SDE06A_quad (SON, 6-Leads, Body 3x3 mm, Pitch 0.95mm, Quad Paste, NSC Recommended)
pins: 1 FB (in), 2 GND (power), 3 SW (power), 4 VIND (power), 5 VINA (power), 6 EN (in), 7 DAP

## LM2831ZSDX/NOPB
designator U?
High Frequency 1.5A Load - Step-Down DC-DC Regulator, 6-pin LLP, Pb-Free; PartNumber: LM2831ZSDX/NOPB; Manufacturer: National Semiconductor; PackageTopMarking: ZXYTT*L195B; PowerWise: N; CompType: Switcher; Published: 1-Mar-2010; DatasheetVersion: Aug-2006; PackageVersion: revA, Jul-2003; PackageReference: SDE06A; Publisher: Altium Limited; PackageDescription: LLP, Plastic, Dual, 3 x 3 x 0.8mm Body, 6 Lead, 0.95mm Pitch, No Pullback; Supplier 1: Digi-Key; Supplier Part Number 1: LM2831ZSDX-ND; RoHS: Y; PinCount: 6; ComponentLink1Description: LM2831 Datasheet; ComponentLink1URL: http://www.national.com/ds/LM/LM2831.pdf; ComponentLink2Description: LM2831 Web Page; ComponentLink2URL: http://www.national.com/pf/LM/LM2831.html; ComponentLink3Description: SDE06A Package Page; ComponentLink3URL: http://www.national.com/packaging/folders/sde06a.html
footprint SDE06A_full (SON, 6-Leads, Body 3x3 mm, Pitch 0.95mm, Full Paste, NSC Recommended)
footprint SDE06A_quad (SON, 6-Leads, Body 3x3 mm, Pitch 0.95mm, Quad Paste, NSC Recommended)
pins: 1 FB (in), 2 GND (power), 3 SW (power), 4 VIND (power), 5 VINA (power), 6 EN (in), 7 DAP

## LM2832XMY
designator U?
High Frequency 2.0A Load - Step-Down DC-DC Regulator, 8-pin eMSOP; PartNumber: LM2832XMY; Manufacturer: National Semiconductor; PackageTopMarking: ZXTT*SLBB; PowerWise: N; CompType: Switcher; Published: 4-Dec-2008; DatasheetVersion: Aug-2006; PackageVersion: revA, Nov-2003; PackageReference: MUY08A; Publisher: Altium Limited; PackageDescription: Molded Mini-SO, Exposed Pad, .118 x .118 x .034in Body, 8 Lead, .0256in Pitch; Supplier 1: Farnell; Supplier Part Number 1: 1271414; RoHS: N; PinCount: 8; Code_JEDEC: MO-187-AA; ComponentLink1Description: LM2832 Datasheet; ComponentLink1URL: http://www.national.com/ds/LM/LM2832.pdf; ComponentLink2Description: LM2832 Web Page; ComponentLink2URL: http://www.national.com/pf/LM/LM2832.html; ComponentLink3Description: MUY08A Package Page; ComponentLink3URL: http://www.national.com/packaging/folders/muy08a.html
footprint MUY08A_N (TSOP, 8-Leads, Body 3x3mm, Pitch 0.65mm, Exposed Pad, IPC Medium Density)
footprint MUY08A_L (TSOP, 8-Leads, Body 3x3mm, Pitch 0.65mm, Exposed Pad, IPC High Density)
footprint MUY08A_M (TSOP, 8-Leads, Body 3x3mm, Pitch 0.65mm, Exposed Pad, IPC Low Density)
pins: 1 VIND (power), 2 VINA (power), 3 GND (power), 4 EN (in), 5 GND (power), 6 FB (in), 7 GND (power), 8 SW (power), 9 DAP

## LM2832XMY/NOPB
designator U?
High Frequency 2.0A Load - Step-Down DC-DC Regulator, 8-pin eMSOP, Pb-Free; PartNumber: LM2832XMY/NOPB; Manufacturer: National Semiconductor; PackageTopMarking: ZXTT*SLBB; PowerWise: N; CompType: Switcher; Published: 1-Mar-2010; DatasheetVersion: Aug-2006; PackageVersion: revA, Nov-2003; PackageReference: MUY08A; Publisher: Altium Limited; PackageDescription: Molded Mini-SO, Exposed Pad, .118 x .118 x .034in Body, 8 Lead, .0256in Pitch; Supplier 1: Digi-Key; Supplier Part Number 1: LM2832XMYTR-ND; Supplier 2: Digi-Key; Supplier Part Number 2: LM2832XMYCT-ND; Supplier 3: Digi-Key; Supplier Part Number 3: LM2832XMYDKR-ND; Supplier 4: Farnell; Supplier Part Number 4: 1654261; RoHS: Y; PinCount: 8; Code_JEDEC: MO-187-AA; ComponentLink1Description: LM2832 Datasheet; ComponentLink1URL: http://www.national.com/ds/LM/LM2832.pdf; ComponentLink2Description: LM2832 Web Page; ComponentLink2URL: http://www.national.com/pf/LM/LM2832.html; ComponentLink3Description: MUY08A Package Page; ComponentLink3URL: http://www.national.com/packaging/folders/muy08a.html
footprint MUY08A_N (TSOP, 8-Leads, Body 3x3mm, Pitch 0.65mm, Exposed Pad, IPC Medium Density)
footprint MUY08A_L (TSOP, 8-Leads, Body 3x3mm, Pitch 0.65mm, Exposed Pad, IPC High Density)
footprint MUY08A_M (TSOP, 8-Leads, Body 3x3mm, Pitch 0.65mm, Exposed Pad, IPC Low Density)
pins: 1 VIND (power), 2 VINA (power), 3 GND (power), 4 EN (in), 5 GND (power), 6 FB (in), 7 GND (power), 8 SW (power), 9 DAP

## LM2832XMYX
designator U?
High Frequency 2.0A Load - Step-Down DC-DC Regulator, 8-pin eMSOP; PartNumber: LM2832XMYX; Manufacturer: National Semiconductor; PackageTopMarking: ZXTT*SLBB; PowerWise: N; CompType: Switcher; Published: 1-Mar-2010; DatasheetVersion: Aug-2006; PackageVersion: revA, Nov-2003; PackageReference: MUY08A; Publisher: Altium Limited; PackageDescription: Molded Mini-SO, Exposed Pad, .118 x .118 x .034in Body, 8 Lead, .0256in Pitch; RoHS: N; PinCount: 8; Code_JEDEC: MO-187-AA; ComponentLink1Description: LM2832 Datasheet; ComponentLink1URL: http://www.national.com/ds/LM/LM2832.pdf; ComponentLink2Description: LM2832 Web Page; ComponentLink2URL: http://www.national.com/pf/LM/LM2832.html; ComponentLink3Description: MUY08A Package Page; ComponentLink3URL: http://www.national.com/packaging/folders/muy08a.html
footprint MUY08A_N (TSOP, 8-Leads, Body 3x3mm, Pitch 0.65mm, Exposed Pad, IPC Medium Density)
footprint MUY08A_L (TSOP, 8-Leads, Body 3x3mm, Pitch 0.65mm, Exposed Pad, IPC High Density)
footprint MUY08A_M (TSOP, 8-Leads, Body 3x3mm, Pitch 0.65mm, Exposed Pad, IPC Low Density)
pins: 1 VIND (power), 2 VINA (power), 3 GND (power), 4 EN (in), 5 GND (power), 6 FB (in), 7 GND (power), 8 SW (power), 9 DAP

## LM2832XMYX/NOPB
designator U?
High Frequency 2.0A Load - Step-Down DC-DC Regulator, 8-pin eMSOP, Pb-Free; PartNumber: LM2832XMYX/NOPB; Manufacturer: National Semiconductor; PackageTopMarking: ZXTT*SLBB; PowerWise: N; CompType: Switcher; Published: 1-Mar-2010; DatasheetVersion: Aug-2006; PackageVersion: revA, Nov-2003; PackageReference: MUY08A; Publisher: Altium Limited; PackageDescription: Molded Mini-SO, Exposed Pad, .118 x .118 x .034in Body, 8 Lead, .0256in Pitch; Supplier 1: Digi-Key; Supplier Part Number 1: LM2832XMYX-ND; RoHS: Y; PinCount: 8; Code_JEDEC: MO-187-AA; ComponentLink1Description: LM2832 Datasheet; ComponentLink1URL: http://www.national.com/ds/LM/LM2832.pdf; ComponentLink2Description: LM2832 Web Page; ComponentLink2URL: http://www.national.com/pf/LM/LM2832.html; ComponentLink3Description: MUY08A Package Page; ComponentLink3URL: http://www.national.com/packaging/folders/muy08a.html
footprint MUY08A_N (TSOP, 8-Leads, Body 3x3mm, Pitch 0.65mm, Exposed Pad, IPC Medium Density)
footprint MUY08A_L (TSOP, 8-Leads, Body 3x3mm, Pitch 0.65mm, Exposed Pad, IPC High Density)
footprint MUY08A_M (TSOP, 8-Leads, Body 3x3mm, Pitch 0.65mm, Exposed Pad, IPC Low Density)
pins: 1 VIND (power), 2 VINA (power), 3 GND (power), 4 EN (in), 5 GND (power), 6 FB (in), 7 GND (power), 8 SW (power), 9 DAP

## LM2832XSD
designator U?
High Frequency 2.0A Load - Step-Down DC-DC Regulator, 6-pin LLP; PartNumber: LM2832XSD; Manufacturer: National Semiconductor; PackageTopMarking: ZXYTT*L196B; PowerWise: N; CompType: Switcher; Published: 4-Dec-2008; DatasheetVersion: Aug-2006; PackageVersion: revA, Jul-2003; PackageReference: SDE06A; Publisher: Altium Limited; PackageDescription: LLP, Plastic, Dual, 3 x 3 x 0.8mm Body, 6 Lead, 0.95mm Pitch, No Pullback; RoHS: N; PinCount: 6; ComponentLink1Description: LM2832 Datasheet; ComponentLink1URL: http://www.national.com/ds/LM/LM2832.pdf; ComponentLink2Description: LM2832 Web Page; ComponentLink2URL: http://www.national.com/pf/LM/LM2832.html; ComponentLink3Description: SDE06A Package Page; ComponentLink3URL: http://www.national.com/packaging/folders/sde06a.html
footprint SDE06A_full (SON, 6-Leads, Body 3x3 mm, Pitch 0.95mm, Full Paste, NSC Recommended)
footprint SDE06A_quad (SON, 6-Leads, Body 3x3 mm, Pitch 0.95mm, Quad Paste, NSC Recommended)
pins: 1 FB (in), 2 GND (power), 3 SW (power), 4 VIND (power), 5 VINA (power), 6 EN (in), 7 DAP

## LM2832XSD/NOPB
designator U?
High Frequency 2.0A Load - Step-Down DC-DC Regulator, 6-pin LLP, Pb-Free; PartNumber: LM2832XSD/NOPB; Manufacturer: National Semiconductor; PackageTopMarking: ZXYTT*L196B; PowerWise: N; CompType: Switcher; Published: 1-Mar-2010; DatasheetVersion: Aug-2006; PackageVersion: revA, Jul-2003; PackageReference: SDE06A; Publisher: Altium Limited; PackageDescription: LLP, Plastic, Dual, 3 x 3 x 0.8mm Body, 6 Lead, 0.95mm Pitch, No Pullback; Supplier 1: Digi-Key; Supplier Part Number 1: LM2832XSDTR-ND; Supplier 2: Digi-Key; Supplier Part Number 2: LM2832XSDCT-ND; Supplier 3: Digi-Key; Supplier Part Number 3: LM2832XSDDKR-ND; Supplier 4: Farnell; Supplier Part Number 4: 1685577; RoHS: Y; PinCount: 6; ComponentLink1Description: LM2832 Datasheet; ComponentLink1URL: http://www.national.com/ds/LM/LM2832.pdf; ComponentLink2Description: LM2832 Web Page; ComponentLink2URL: http://www.national.com/pf/LM/LM2832.html; ComponentLink3Description: SDE06A Package Page; ComponentLink3URL: http://www.national.com/packaging/folders/sde06a.html
footprint SDE06A_full (SON, 6-Leads, Body 3x3 mm, Pitch 0.95mm, Full Paste, NSC Recommended)
footprint SDE06A_quad (SON, 6-Leads, Body 3x3 mm, Pitch 0.95mm, Quad Paste, NSC Recommended)
pins: 1 FB (in), 2 GND (power), 3 SW (power), 4 VIND (power), 5 VINA (power), 6 EN (in), 7 DAP

## LM2832XSDX
designator U?
High Frequency 2.0A Load - Step-Down DC-DC Regulator, 6-pin LLP; PartNumber: LM2832XSDX; Manufacturer: National Semiconductor; PackageTopMarking: ZXYTT*L196B; PowerWise: N; CompType: Switcher; Published: 1-Mar-2010; DatasheetVersion: Aug-2006; PackageVersion: revA, Jul-2003; PackageReference: SDE06A; Publisher: Altium Limited; PackageDescription: LLP, Plastic, Dual, 3 x 3 x 0.8mm Body, 6 Lead, 0.95mm Pitch, No Pullback; RoHS: N; PinCount: 6; ComponentLink1Description: LM2832 Datasheet; ComponentLink1URL: http://www.national.com/ds/LM/LM2832.pdf; ComponentLink2Description: LM2832 Web Page; ComponentLink2URL: http://www.national.com/pf/LM/LM2832.html; ComponentLink3Description: SDE06A Package Page; ComponentLink3URL: http://www.national.com/packaging/folders/sde06a.html
footprint SDE06A_full (SON, 6-Leads, Body 3x3 mm, Pitch 0.95mm, Full Paste, NSC Recommended)
footprint SDE06A_quad (SON, 6-Leads, Body 3x3 mm, Pitch 0.95mm, Quad Paste, NSC Recommended)
pins: 1 FB (in), 2 GND (power), 3 SW (power), 4 VIND (power), 5 VINA (power), 6 EN (in), 7 DAP